# Altium footprint library SchLib_Recinto.PcbLib: 64 footprints (part 2 of 4)
Each footprint in its own frame and in the unit in brackets; x right, y up, seen from the top. Pads: shape width x height; smd on the part's side, far side on the other; paste and mask are expansions set on the pad; w line width, h text height; cw(c..) or ccw(c..) is an arc to the next point about the centre after c.
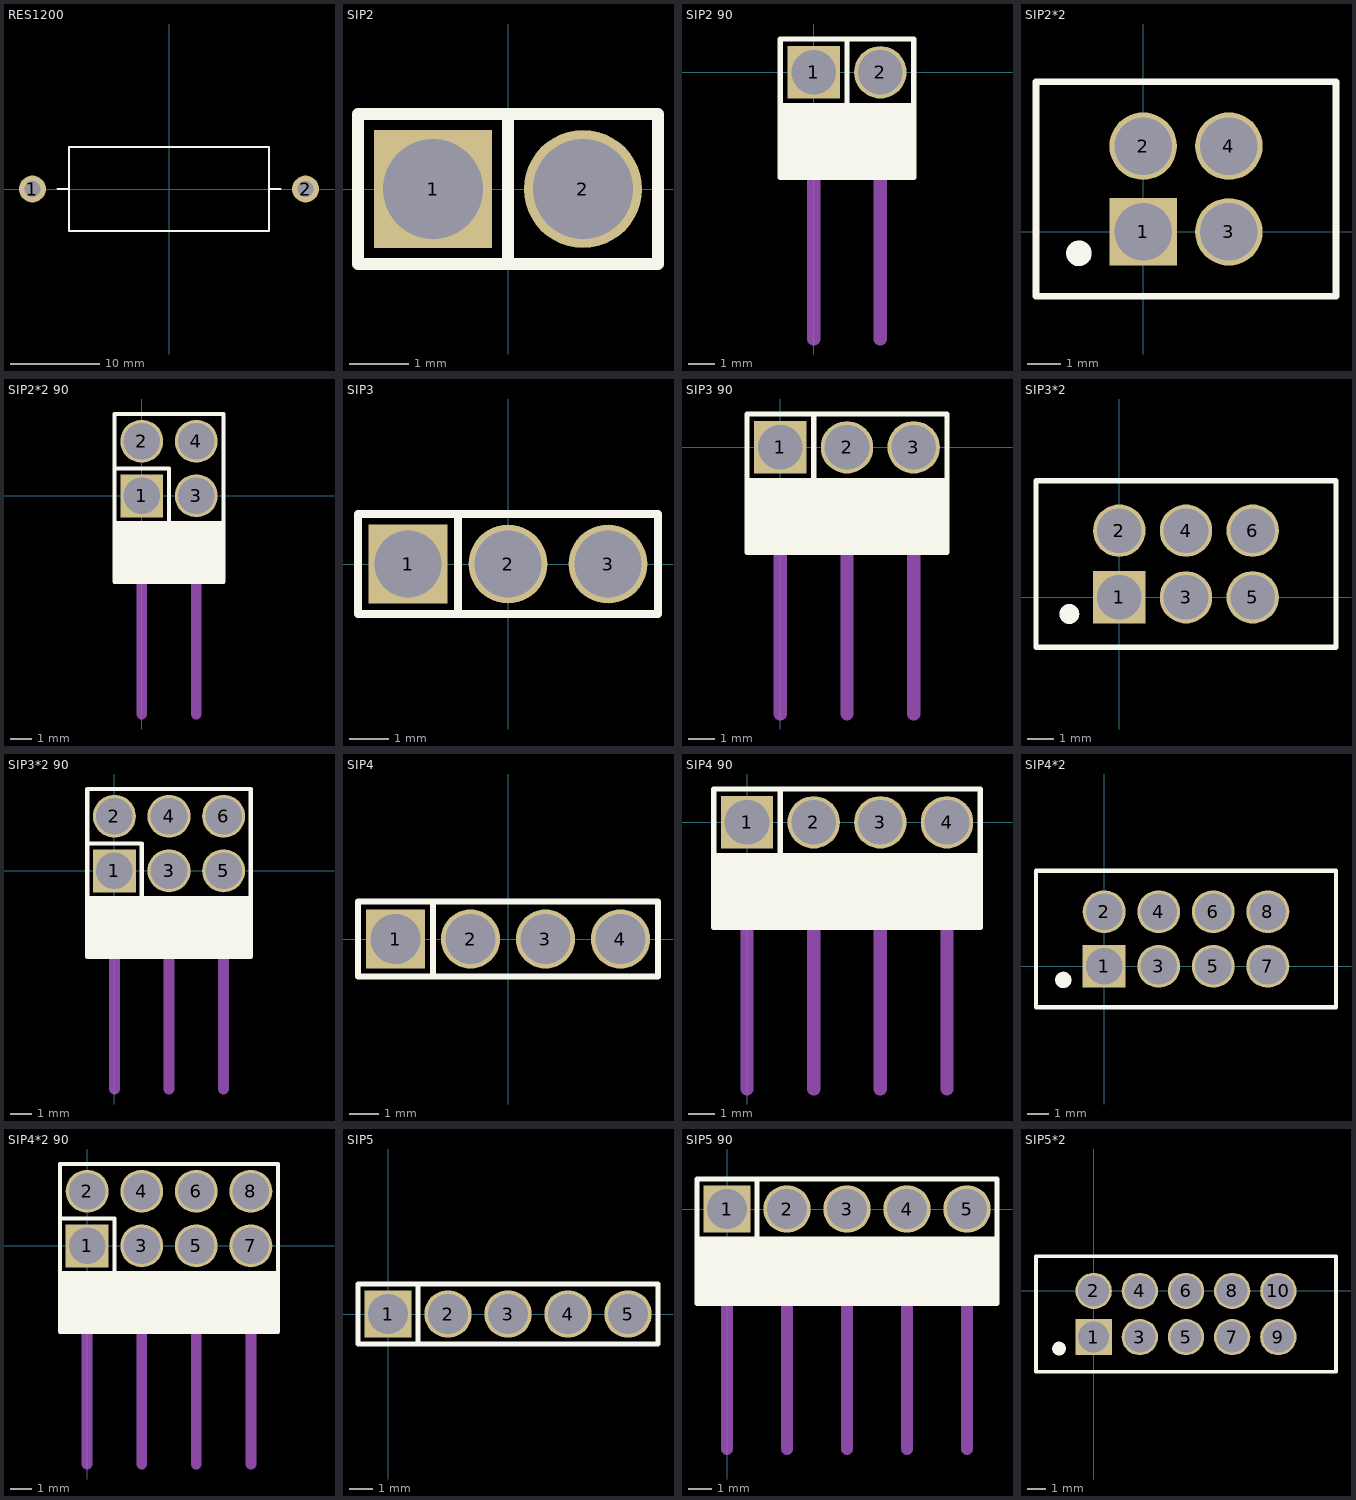
[diagram p1: the footprints below, top view; thin cyan lines are the x and y axes]

## RES1200 [mm]
pads (2):
  round 3 hole 1.75: 1(-15.24,0) 2(15.24,0)
Top Overlay:
  lines w0.203: -12.446,0 -11.176,0 ; 11.176,0 12.446,0 ; -11.176,-4.699 -11.176,4.699 11.176,4.699 11.176,-4.699 -11.176,-4.699
3D body "SW3dPS-PRWC7W.STEP": height 9.51, standoff -3.36, extent -15.621,-4.5 15.61,4.5

## SIP2 [mm]
pads (2):
  rect 2x2 hole 1.7: 1(-1.27,0)
  round 2 hole 1.7: 2(1.27,0)
Top Overlay:
  lines w0.2: 0,-1.27 0,1.27 ; -2.54,-1.27 -2.54,1.27 2.54,1.27 2.54,-1.27 -2.54,-1.27

## SIP2 90 [mm]
pads (2):
  rect 2x2 hole 1.7: 1(0,0)
  round 2 hole 1.7: 2(2.54,0)
Top Overlay:
  rectangle: -1.27,-4 1.27,-1.27
  rectangle: 1.27,-4 3.81,-1.27
  lines w0.2: 1.27,1.27 1.27,-1.27 ; -1.27,-1.27 -1.27,1.27 3.81,1.27 3.81,-1.27 ; -1.27,-1.27 -1.27,-4 1.27,-4 ; -1.27,-1.27 3.81,-1.27 ; 1.27,-4 1.27,-1.27 ; 1.27,-4 1.27,-1.27 ; 1.27,-4 3.81,-4 3.81,-1.27
Mechanical 1:
  lines w0.508: 0,-10.16 0,-4.064 ; 2.54,-10.16 2.54,-4.064
3D body "User Library-m0003083.step": height 3.76, standoff -4.72, extent -1.27,-9.938 3.81,0.286

## SIP2*2 [mm]
pads (4):
  rect 2x2 hole 1.7: 1(0,0)
  round 2 hole 1.7: 2(0,2.54) 3(2.54,0) 4(2.54,2.54)
Top Overlay:
  circle w0.254: c-1.993,-0.635 r0.125
  circle w0.254: c-1.905,-0.635 r0.254
  lines w0.2: -3.175,-1.905 5.715,-1.905 5.715,4.445 -3.175,4.445 -3.175,-1.905
3D body "12536.stp": height 8.8, standoff -3, extent -1.27,-1.27 3.81,3.73

## SIP2*2 90 [mm]
pads (4):
  rect 2x2 hole 1.7: 1(0,0)
  round 2 hole 1.7: 2(0,2.54) 3(2.54,0) 4(2.54,2.54)
Top Overlay:
  rectangle: 1.27,-4 3.81,-1.27
  rectangle: -1.27,-4 1.27,-1.27
  lines w0.2: -1.27,1.27 1.27,1.27 1.27,-1.27 ; -1.27,-1.27 -1.27,-4 1.27,-4 ; -1.27,-1.27 -1.27,3.81 3.81,3.81 3.81,-1.27 ; -1.27,-1.27 3.81,-1.27 ; 1.27,-4 3.81,-4 3.81,-1.27 ; 1.27,-4 1.27,-1.27 ; 1.27,-4 1.27,-1.27
Mechanical 1:
  lines w0.508: 0,-10.16 0,-4.064 ; 2.54,-10.16 2.54,-4.064
3D body "pin_header_awl254-da-g04d.stp": height 5.1, standoff -2.9, extent -1.27,-9.996 3.81,2.884

## SIP3 [mm]
pads (3):
  rect 2x2 hole 1.7: 1(-2.54,0)
  round 2 hole 1.7: 2(0,0) 3(2.54,0)
Top Overlay:
  lines w0.2: -1.27,-1.27 -1.27,1.27 ; -3.81,-1.27 -3.81,1.27 3.81,1.27 3.81,-1.27 -3.81,-1.27
3D body "SIP3.step": height 8.38, standoff -2.54, extent -3.81,-1.295 3.81,1.245

## SIP3 90 [mm]
pads (3):
  rect 2x2 hole 1.7: 1(0,0)
  round 2 hole 1.7: 2(2.54,0) 3(5.08,0)
Top Overlay:
  rectangle: -1.27,-4 1.27,-1.27
  rectangle: 1.27,-4 3.81,-1.27
  rectangle: 3.81,-4 6.35,-1.27
  lines w0.2: 1.27,1.27 1.27,-1.27 ; -1.27,-1.27 6.35,-1.27 ; -1.27,-1.27 -1.27,1.27 6.35,1.27 6.35,-1.27 ; -1.27,-1.27 -1.27,-4 1.27,-4 ; 1.27,-4 1.27,-1.27 ; 1.27,-4 1.27,-1.27 ; 1.27,-4 3.81,-4 ; 3.81,-4 3.81,-1.27 3.81,-4 ; 3.81,-4 6.35,-4 6.35,-1.27
Mechanical 1:
  lines w0.508: 0,-10.16 0,-4.064 ; 2.54,-10.16 2.54,-4.064 ; 5.08,-10.16 5.08,-4.064
3D body "User Library-m0003083.step": height 3.76, standoff -4.72, extent -1.27,-9.938 3.81,0.286
3D body "User Library-m0003083.step": height 3.76, standoff -4.72, extent 1.27,-9.938 6.35,0.286

## SIP3*2 [mm]
pads (6):
  rect 2x2 / inner rect 1.524x1.524 / far side rect 1.524x1.524 hole 1.7: 1(0,0)
  round 2 / inner round 1.524 / far side round 1.524 hole 1.7: 2(0,2.54) 3(2.54,0) 4(2.54,2.54) 5(5.08,0) 6(5.08,2.54)
Top Overlay:
  circle w0.254: c-1.905,-0.635 r0.254
  circle w0.254: c-1.993,-0.635 r0.125
  lines w0.2: -3.175,-1.905 -3.175,4.445 8.255,4.445 8.255,-1.905 -3.175,-1.905
3D body "SIP3_2.step": height 10.1, standoff -1.5, extent -1.262,-1.295 6.358,3.785

## SIP3*2 90 [mm]
pads (6):
  rect 2x2 hole 1.7: 1(0,0)
  round 2 hole 1.7: 2(0,2.54) 3(2.54,0) 4(2.54,2.54) 5(5.08,0) 6(5.08,2.54)
Top Overlay:
  rectangle: -1.27,-4 1.27,-1.27
  rectangle: 1.27,-4 3.81,-1.27
  rectangle: 3.81,-4 6.35,-1.27
  lines w0.2: -1.27,1.27 1.27,1.27 1.27,-1.27 ; -1.27,-1.27 -1.27,3.81 6.35,3.81 6.35,-1.27 ; -1.27,-1.27 6.35,-1.27 ; -1.27,-1.27 -1.27,-4 1.27,-4 ; 1.27,-4 1.27,-1.27 ; 1.27,-4 1.27,-1.27 ; 1.27,-4 3.81,-4 ; 3.81,-4 3.81,-1.27 3.81,-4 ; 3.81,-4 6.35,-4 6.35,-1.27
Mechanical 1:
  lines w0.508: 0,-10.16 0,-4.064 ; 2.54,-10.16 2.54,-4.064 ; 5.08,-10.16 5.08,-4.064
3D body "pin_header_awl254-da-g06d.stp": height 5.1, standoff -2.9, extent -1.27,-9.906 6.35,2.974

## SIP4 [mm]
pads (4):
  rect 2x2 hole 1.7: 1(-3.81,0)
  round 2 hole 1.7: 2(-1.27,0) 3(1.27,0) 4(3.81,0)
Top Overlay:
  lines w0.2: -2.54,-1.27 -2.54,1.27 ; -5.08,-1.27 -5.08,1.27 5.08,1.27 5.08,-1.27 -5.08,-1.27
3D body "SIP4.step": height 8.38, standoff -2.54, extent -5.08,-1.27 5.08,1.27

## SIP4 90 [mm]
pads (4):
  rect 2x2 hole 1.7: 1(0,0)
  round 2 hole 1.7: 2(2.54,0) 3(5.08,0) 4(7.62,0)
Top Overlay:
  rectangle: 6.35,-4 8.89,-1.27
  rectangle: 3.81,-4 6.35,-1.27
  rectangle: 1.27,-4 3.81,-1.27
  rectangle: -1.27,-4 1.27,-1.27
  lines w0.2: 1.27,1.27 1.27,-1.27 ; -1.27,-1.27 -1.27,-4 1.27,-4 ; -1.27,-1.27 -1.27,1.27 8.89,1.27 8.89,-1.27 ; -1.27,-1.27 8.89,-1.27 ; 1.27,-4 3.81,-4 ; 1.27,-4 1.27,-1.27 ; 1.27,-4 1.27,-1.27 ; 3.81,-4 6.35,-4 ; 3.81,-4 3.81,-1.27 3.81,-4 ; 6.35,-4 8.89,-4 8.89,-1.27 ; 6.35,-4 6.35,-1.27 6.35,-4
Mechanical 1:
  lines w0.508: 0,-10.16 0,-4.064 ; 2.54,-10.16 2.54,-4.064 ; 5.08,-10.16 5.08,-4.064 ; 7.62,-10.16 7.62,-4.064
3D body "User Library-m0003083.step": height 3.76, standoff -4.72, extent -1.27,-9.938 3.81,0.286
3D body "User Library-m0003083.step": height 3.76, standoff -4.72, extent 3.81,-9.938 8.89,0.286

## SIP4*2 [mm]
pads (8):
  rect 2x2 hole 1.7: 1(0,0)
  round 2 hole 1.7: 2(0,2.54) 3(2.54,0) 4(2.54,2.54) 5(5.08,0) 6(5.08,2.54) 7(7.62,0) 8(7.62,2.54)
Top Overlay:
  circle w0.254: c-1.905,-0.635 r0.254
  circle w0.254: c-1.993,-0.635 r0.125
  lines w0.2: -3.175,-1.905 -3.175,4.445 10.795,4.445 10.795,-1.905 -3.175,-1.905
3D body "SIP3_2.step": height 10.1, standoff -1.5, extent 1.278,-1.295 8.898,3.785
3D body "SIP3_2.step": height 10.1, standoff -1.5, extent -1.262,-1.295 6.358,3.785

## SIP4*2 90 [mm]
pads (8):
  rect 2x2 hole 1.7: 1(0,0)
  round 2 hole 1.7: 2(0,2.54) 3(2.54,0) 4(2.54,2.54) 5(5.08,0) 6(5.08,2.54) 7(7.62,0) 8(7.62,2.54)
Top Overlay:
  rectangle: 6.35,-4 8.89,-1.27
  rectangle: 3.81,-4 6.35,-1.27
  rectangle: 1.27,-4 3.81,-1.27
  rectangle: -1.27,-4 1.27,-1.27
  lines w0.2: -1.27,1.27 1.27,1.27 1.27,-1.27 ; -1.27,-1.27 -1.27,-4 1.27,-4 ; -1.27,-1.27 8.89,-1.27 ; -1.27,-1.27 -1.27,3.81 8.89,3.81 8.89,-1.27 ; 1.27,-4 3.81,-4 ; 1.27,-4 1.27,-1.27 ; 1.27,-4 1.27,-1.27 ; 3.81,-4 6.35,-4 ; 3.81,-4 3.81,-1.27 3.81,-4 ; 6.35,-4 8.89,-4 8.89,-1.27 ; 6.35,-4 6.35,-1.27 6.35,-4
Mechanical 1:
  lines w0.508: 0,-10.16 0,-4.064 ; 2.54,-10.16 2.54,-4.064 ; 5.08,-10.16 5.08,-4.064 ; 7.62,-10.16 7.62,-4.064
3D body "pin_header_awl254-da-g04d.stp": height 5.1, standoff -2.9, extent -1.27,-9.996 3.81,2.884
3D body "pin_header_awl254-da-g04d.stp": height 5.1, standoff -2.9, extent 3.81,-9.996 8.89,2.884

## SIP5 [mm]
pads (5):
  rect 2x2 hole 1.7: 1(0,0)
  round 2 hole 1.7: 2(2.54,0) 3(5.08,0) 4(7.62,0) 5(10.16,0)
Top Overlay:
  lines w0.2: 1.27,-1.27 1.27,1.27 ; -1.27,-1.27 -1.27,1.27 11.43,1.27 11.43,-1.27 -1.27,-1.27
3D body "SIP4.step": height 8.38, standoff -2.54, extent -1.27,-1.27 8.89,1.27
3D body "SIP4.step": height 8.38, standoff -2.54, extent 1.27,-1.27 11.43,1.27

## SIP5 90 [mm]
pads (5):
  rect 2x2 hole 1.7: 1(0,0)
  round 2 hole 1.7: 2(2.54,0) 3(5.08,0) 4(7.62,0) 5(10.16,0)
Top Overlay:
  rectangle: -1.27,-4 1.27,-1.27
  rectangle: 1.27,-4 3.81,-1.27
  rectangle: 3.81,-4 6.35,-1.27
  rectangle: 6.35,-4 8.89,-1.27
  rectangle: 8.89,-4 11.43,-1.27
  lines w0.2: 1.27,1.27 1.27,-1.27 ; -1.27,-1.27 -1.27,1.27 11.43,1.27 11.43,-1.27 ; -1.27,-1.27 11.43,-1.27 ; -1.27,-1.27 -1.27,-4 1.27,-4 ; 1.27,-4 1.27,-1.27 ; 1.27,-4 1.27,-1.27 ; 1.27,-4 3.81,-4 ; 3.81,-4 3.81,-1.27 3.81,-4 ; 3.81,-4 6.35,-4 ; 6.35,-4 6.35,-1.27 6.35,-4 ; 6.35,-4 8.89,-4 ; 8.89,-4 8.89,-1.27 8.89,-4 ; 8.89,-4 11.43,-4 11.43,-1.27
Mechanical 1:
  lines w0.508: 0,-10.16 0,-4.064 ; 2.54,-10.16 2.54,-4.064 ; 5.08,-10.16 5.08,-4.064 ; 7.62,-10.16 7.62,-4.064 ; 10.16,-10.16 10.16,-4.064
3D body "User Library-m0003083.step": height 3.76, standoff -4.72, extent -1.27,-9.938 3.81,0.286
3D body "User Library-m0003083.step": height 3.76, standoff -4.72, extent 3.81,-9.938 8.89,0.286
3D body "User Library-m0003083.step": height 3.76, standoff -4.72, extent 6.35,-9.938 11.43,0.286

## SIP5*2 [mm]
pads (10):
  rect 2x2 hole 1.7: 1(0,-2.54)
  round 2 hole 1.7: 2(0,0) 3(2.54,-2.54) 4(2.54,0) 5(5.08,-2.54) 6(5.08,0) 7(7.62,-2.54) 8(7.62,0) 9(10.16,-2.54) 10(10.16,0)
Top Overlay:
  circle w0.254: c-1.993,-3.175 r0.125
  circle w0.254: c-1.905,-3.175 r0.254
  lines w0.2: -3.175,-4.445 13.335,-4.445 13.335,1.905 -3.175,1.905 -3.175,-4.445
3D body "SIP3_2.step": height 10.1, standoff -1.5, extent -1.262,-3.835 6.358,1.245
3D body "SIP3_2.step": height 10.1, standoff -1.5, extent 3.818,-3.835 11.438,1.245